# Altium footprint library Connector_JST.PcbLib: 558 footprints (part 32 of 35)
Each footprint in its own frame and in the unit in brackets; x right, y up, seen from the top. Pads: shape width x height; smd on the part's side, far side on the other; paste and mask are expansions set on the pad; w line width, h text height; cw(c..) or ccw(c..) is an arc to the next point about the centre after c.
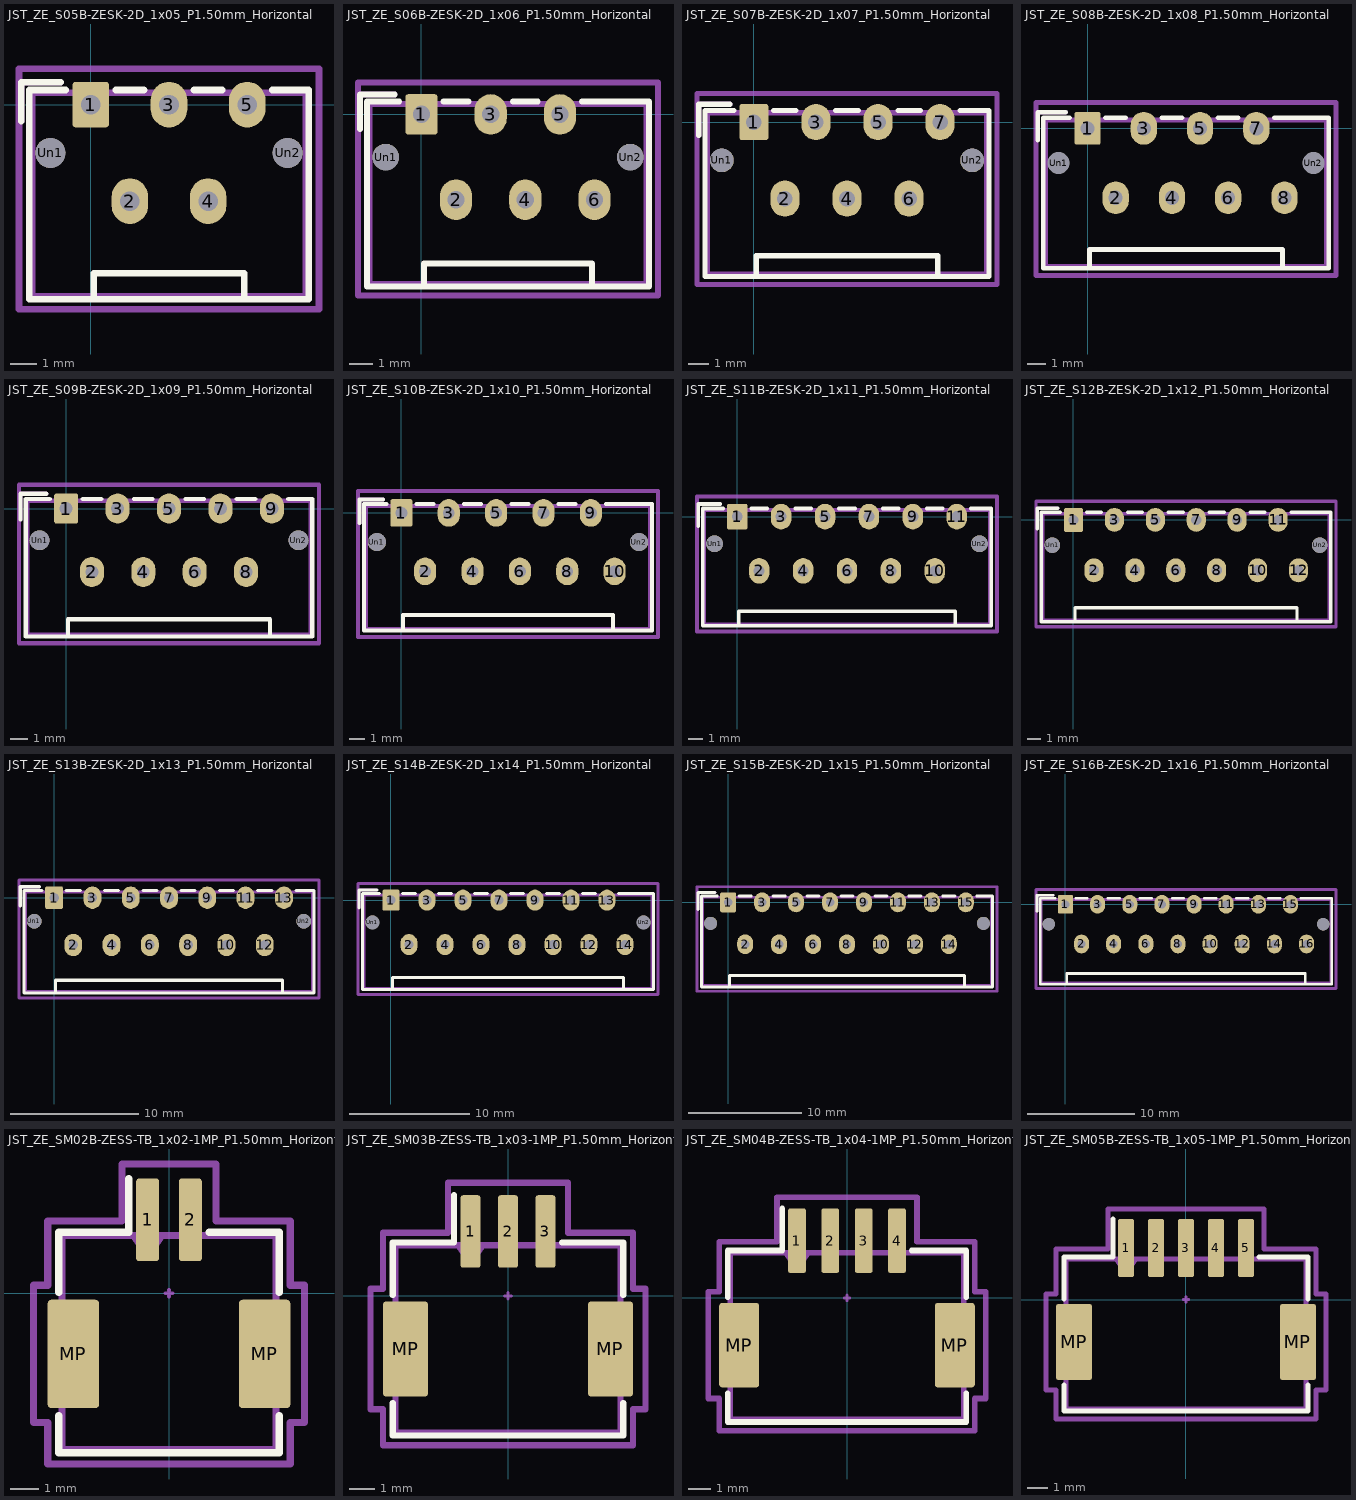
[diagram p31: the footprints below, top view; thin cyan lines are the x and y axes]

## JST_ZE_S05B-ZESK-2D_1x05_P1.50mm_Horizontal [mm] "JST_ZE_S05B-ZESK-2D_1x05_P1.50mm_Horizontal"
pads (7):
  rrect18% 1.4x1.75 hole 0.75: 1(0,0)
  rrect100% 1.4x1.75 hole 0.75: 2(1.5,-3.7) 3(3,0) 4(4.5,-3.7) 5(6,0)
  round 1.15 hole 1.15: Un1(-1.55,-1.85) Un2(7.55,-1.85)
F.SilkS:
  lines w0.254: -2.66,-0.64 -2.66,0.86 -1.16,0.86 ; -0.96,0.56 -2.36,0.56 -2.36,-7.46 8.36,-7.46 8.36,0.56 6.96,0.56 ; 0.11,-7.46 0.11,-6.46 5.89,-6.46 5.89,-7.46 ; 0.96,0.56 2.04,0.56 ; 3.96,0.56 5.04,0.56
Top Component Center:
  lines w0.127: -0.127,0 0.127,0 ; 0,-0.127 0,0.127
Top Assembly:
  lines w0.254: -2.66,-0.64 -2.66,0.86 -1.16,0.86 ; -2.25,-7.35 8.25,-7.35 8.25,0.45 -2.25,0.45 -2.25,-7.35
Top Courtyard:
  lines w0.254: -2.75,-7.85 8.75,-7.85 8.75,1.38 -2.75,1.38 -2.75,-7.85
Top Designator:
  text ".Designator" at -0.255,-2.376 h1.52

## JST_ZE_S06B-ZESK-2D_1x06_P1.50mm_Horizontal [mm] "JST_ZE_S06B-ZESK-2D_1x06_P1.50mm_Horizontal"
pads (8):
  rrect18% 1.4x1.75 hole 0.75: 1(0,0)
  rrect100% 1.4x1.75 hole 0.75: 2(1.5,-3.7) 3(3,0) 4(4.5,-3.7) 5(6,0) 6(7.5,-3.7)
  round 1.15 hole 1.15: Un1(-1.55,-1.85) Un2(9.05,-1.85)
F.SilkS:
  lines w0.254: -2.66,-0.64 -2.66,0.86 -1.16,0.86 ; -0.96,0.56 -2.36,0.56 -2.36,-7.46 9.86,-7.46 9.86,0.56 6.96,0.56 ; 0.11,-7.46 0.11,-6.46 7.39,-6.46 7.39,-7.46 ; 0.96,0.56 2.04,0.56 ; 3.96,0.56 5.04,0.56
Top Component Center:
  lines w0.127: -0.127,0 0.127,0 ; 0,-0.127 0,0.127
Top Assembly:
  lines w0.254: -2.66,-0.64 -2.66,0.86 -1.16,0.86 ; -2.25,-7.35 9.75,-7.35 9.75,0.45 -2.25,0.45 -2.25,-7.35
Top Courtyard:
  lines w0.254: -2.75,-7.85 10.25,-7.85 10.25,1.38 -2.75,1.38 -2.75,-7.85
Top Designator:
  text ".Designator" at 0.253,-2.376 h1.52

## JST_ZE_S07B-ZESK-2D_1x07_P1.50mm_Horizontal [mm] "JST_ZE_S07B-ZESK-2D_1x07_P1.50mm_Horizontal"
pads (9):
  rrect18% 1.4x1.75 hole 0.75: 1(0,0)
  rrect100% 1.4x1.75 hole 0.75: 2(1.5,-3.7) 3(3,0) 4(4.5,-3.7) 5(6,0) 6(7.5,-3.7) 7(9,0)
  round 1.15 hole 1.15: Un1(-1.55,-1.85) Un2(10.55,-1.85)
F.SilkS:
  lines w0.254: -2.66,-0.64 -2.66,0.86 -1.16,0.86 ; -0.96,0.56 -2.36,0.56 -2.36,-7.46 11.36,-7.46 11.36,0.56 9.96,0.56 ; 0.11,-7.46 0.11,-6.46 8.89,-6.46 8.89,-7.46 ; 0.96,0.56 2.04,0.56 ; 3.96,0.56 5.04,0.56 ; 6.96,0.56 8.04,0.56
Top Component Center:
  lines w0.127: -0.127,0 0.127,0 ; 0,-0.127 0,0.127
Top Assembly:
  lines w0.254: -2.66,-0.64 -2.66,0.86 -1.16,0.86 ; -2.25,-7.35 11.25,-7.35 11.25,0.45 -2.25,0.45 -2.25,-7.35
Top Courtyard:
  lines w0.254: -2.75,-7.85 11.75,-7.85 11.75,1.38 -2.75,1.38 -2.75,-7.85
Top Designator:
  text ".Designator" at 1.015,-2.376 h1.52

## JST_ZE_S08B-ZESK-2D_1x08_P1.50mm_Horizontal [mm] "JST_ZE_S08B-ZESK-2D_1x08_P1.50mm_Horizontal"
pads (10):
  rrect18% 1.4x1.75 hole 0.75: 1(0,0)
  rrect100% 1.4x1.75 hole 0.75: 2(1.5,-3.7) 3(3,0) 4(4.5,-3.7) 5(6,0) 6(7.5,-3.7) 7(9,0) 8(10.5,-3.7)
  round 1.15 hole 1.15: Un1(-1.55,-1.85) Un2(12.05,-1.85)
F.SilkS:
  lines w0.254: -2.66,-0.64 -2.66,0.86 -1.16,0.86 ; -0.96,0.56 -2.36,0.56 -2.36,-7.46 12.86,-7.46 12.86,0.56 9.96,0.56 ; 0.11,-7.46 0.11,-6.46 10.39,-6.46 10.39,-7.46 ; 0.96,0.56 2.04,0.56 ; 3.96,0.56 5.04,0.56 ; 6.96,0.56 8.04,0.56
Top Component Center:
  lines w0.127: -0.127,0 0.127,0 ; 0,-0.127 0,0.127
Top Assembly:
  lines w0.254: -2.66,-0.64 -2.66,0.86 -1.16,0.86 ; -2.25,-7.35 -2.25,0.45 12.75,0.45 12.75,-7.35 -2.25,-7.35
Top Courtyard:
  lines w0.254: -2.75,-7.85 -2.75,1.38 13.25,1.38 13.25,-7.85 -2.75,-7.85
Top Designator:
  text ".Designator" at 2.285,-2.249 h1.52

## JST_ZE_S09B-ZESK-2D_1x09_P1.50mm_Horizontal [mm] "JST_ZE_S09B-ZESK-2D_1x09_P1.50mm_Horizontal"
pads (11):
  rrect18% 1.4x1.75 hole 0.75: 1(0,0)
  rrect100% 1.4x1.75 hole 0.75: 2(1.5,-3.7) 3(3,0) 4(4.5,-3.7) 5(6,0) 6(7.5,-3.7) 7(9,0) 8(10.5,-3.7) 9(12,0)
  round 1.15 hole 1.15: Un1(-1.55,-1.85) Un2(13.55,-1.85)
F.SilkS:
  lines w0.254: -2.66,-0.64 -2.66,0.86 -1.16,0.86 ; -0.96,0.56 -2.36,0.56 -2.36,-7.46 14.36,-7.46 14.36,0.56 12.96,0.56 ; 0.11,-7.46 0.11,-6.46 11.89,-6.46 11.89,-7.46 ; 0.96,0.56 2.04,0.56 ; 3.96,0.56 5.04,0.56 ; 6.96,0.56 8.04,0.56 ; 9.96,0.56 11.04,0.56
Top Component Center:
  lines w0.127: -0.127,0 0.127,0 ; 0,-0.127 0,0.127
Top Assembly:
  lines w0.254: -2.66,-0.64 -2.66,0.86 -1.16,0.86 ; -2.25,-7.35 14.25,-7.35 14.25,0.45 -2.25,0.45 -2.25,-7.35
Top Courtyard:
  lines w0.254: -2.75,-7.85 14.75,-7.85 14.75,1.38 -2.75,1.38 -2.75,-7.85
Top Designator:
  text ".Designator" at 2.539,-2.122 h1.52

## JST_ZE_S10B-ZESK-2D_1x10_P1.50mm_Horizontal [mm] "JST_ZE_S10B-ZESK-2D_1x10_P1.50mm_Horizontal"
pads (12):
  rrect18% 1.4x1.75 hole 0.75: 1(0,0)
  rrect100% 1.4x1.75 hole 0.75: 2(1.5,-3.7) 3(3,0) 4(4.5,-3.7) 5(6,0) 6(7.5,-3.7) 7(9,0) 8(10.5,-3.7) 9(12,0) 10(13.5,-3.7)
  round 1.15 hole 1.15: Un1(-1.55,-1.85) Un2(15.05,-1.85)
F.SilkS:
  lines w0.254: -2.66,-0.64 -2.66,0.86 -1.16,0.86 ; -0.96,0.56 -2.36,0.56 -2.36,-7.46 15.86,-7.46 15.86,0.56 12.96,0.56 ; 0.11,-7.46 0.11,-6.46 13.39,-6.46 13.39,-7.46 ; 0.96,0.56 2.04,0.56 ; 3.96,0.56 5.04,0.56 ; 6.96,0.56 8.04,0.56 ; 9.96,0.56 11.04,0.56
Top Component Center:
  lines w0.127: -0.127,0 0.127,0 ; 0,-0.127 0,0.127
Top Assembly:
  lines w0.254: -2.66,-0.64 -2.66,0.86 -1.16,0.86 ; -2.25,-7.35 -2.25,0.45 15.75,0.45 15.75,-7.35 -2.25,-7.35
Top Courtyard:
  lines w0.254: -2.75,-7.85 -2.75,1.38 16.25,1.38 16.25,-7.85 -2.75,-7.85
Top Designator:
  text ".Designator" at 3.301,-2.122 h1.52

## JST_ZE_S11B-ZESK-2D_1x11_P1.50mm_Horizontal [mm] "JST_ZE_S11B-ZESK-2D_1x11_P1.50mm_Horizontal"
pads (13):
  rrect18% 1.4x1.75 hole 0.75: 1(0,0)
  rrect100% 1.4x1.75 hole 0.75: 2(1.5,-3.7) 3(3,0) 4(4.5,-3.7) 5(6,0) 6(7.5,-3.7) 7(9,0) 8(10.5,-3.7) 9(12,0) 10(13.5,-3.7) 11(15,0)
  round 1.15 hole 1.15: Un1(-1.55,-1.85) Un2(16.55,-1.85)
F.SilkS:
  lines w0.254: -2.66,-0.64 -2.66,0.86 -1.16,0.86 ; -0.96,0.56 -2.36,0.56 -2.36,-7.46 17.36,-7.46 17.36,0.56 15.96,0.56 ; 0.11,-7.46 0.11,-6.46 14.89,-6.46 14.89,-7.46 ; 0.96,0.56 2.04,0.56 ; 3.96,0.56 5.04,0.56 ; 6.96,0.56 8.04,0.56 ; 9.96,0.56 11.04,0.56 ; 12.96,0.56 14.04,0.56
Top Component Center:
  lines w0.127: -0.127,0 0.127,0 ; 0,-0.127 0,0.127
Top Assembly:
  lines w0.254: -2.66,-0.64 -2.66,0.86 -1.16,0.86 ; -2.25,-7.35 -2.25,0.45 17.25,0.45 17.25,-7.35 -2.25,-7.35
Top Courtyard:
  lines w0.254: -2.75,-7.85 -2.75,1.38 17.75,1.38 17.75,-7.85 -2.75,-7.85
Top Designator:
  text ".Designator" at 4.063,-2.249 h1.52

## JST_ZE_S12B-ZESK-2D_1x12_P1.50mm_Horizontal [mm] "JST_ZE_S12B-ZESK-2D_1x12_P1.50mm_Horizontal"
pads (14):
  rrect18% 1.4x1.75 hole 0.75: 1(0,0)
  rrect100% 1.4x1.75 hole 0.75: 2(1.5,-3.7) 3(3,0) 4(4.5,-3.7) 5(6,0) 6(7.5,-3.7) 7(9,0) 8(10.5,-3.7) 9(12,0) 10(13.5,-3.7) 11(15,0) 12(16.5,-3.7)
  round 1.15 hole 1.15: Un1(-1.55,-1.85) Un2(18.05,-1.85)
F.SilkS:
  lines w0.254: -2.66,-0.64 -2.66,0.86 -1.16,0.86 ; -0.96,0.56 -2.36,0.56 -2.36,-7.46 18.86,-7.46 18.86,0.56 15.96,0.56 ; 0.11,-7.46 0.11,-6.46 16.39,-6.46 16.39,-7.46 ; 0.96,0.56 2.04,0.56 ; 3.96,0.56 5.04,0.56 ; 6.96,0.56 8.04,0.56 ; 9.96,0.56 11.04,0.56 ; 12.96,0.56 14.04,0.56
Top Component Center:
  lines w0.127: -0.127,0 0.127,0 ; 0,-0.127 0,0.127
Top Assembly:
  lines w0.254: -2.66,-0.64 -2.66,0.86 -1.16,0.86 ; -2.25,-7.35 -2.25,0.45 18.75,0.45 18.75,-7.35 -2.25,-7.35
Top Courtyard:
  lines w0.254: -2.75,-7.85 -2.75,1.38 19.25,1.38 19.25,-7.85 -2.75,-7.85
Top Designator:
  text ".Designator" at 4.571,-2.122 h1.52

## JST_ZE_S13B-ZESK-2D_1x13_P1.50mm_Horizontal [mm] "JST_ZE_S13B-ZESK-2D_1x13_P1.50mm_Horizontal"
pads (15):
  rrect18% 1.4x1.75 hole 0.75: 1(0,0)
  rrect100% 1.4x1.75 hole 0.75: 2(1.5,-3.7) 3(3,0) 4(4.5,-3.7) 5(6,0) 6(7.5,-3.7) 7(9,0) 8(10.5,-3.7) 9(12,0) 10(13.5,-3.7) 11(15,0) 12(16.5,-3.7) 13(18,0)
  round 1.15 hole 1.15: Un1(-1.55,-1.85) Un2(19.55,-1.85)
F.SilkS:
  lines w0.254: -2.66,-0.64 -2.66,0.86 -1.16,0.86 ; -0.96,0.56 -2.36,0.56 -2.36,-7.46 20.36,-7.46 20.36,0.56 18.96,0.56 ; 0.11,-7.46 0.11,-6.46 17.89,-6.46 17.89,-7.46 ; 0.96,0.56 2.04,0.56 ; 3.96,0.56 5.04,0.56 ; 6.96,0.56 8.04,0.56 ; 9.96,0.56 11.04,0.56 ; 12.96,0.56 14.04,0.56 ; 15.96,0.56 17.04,0.56
Top Component Center:
  lines w0.127: -0.127,0 0.127,0 ; 0,-0.127 0,0.127
Top Assembly:
  lines w0.254: -2.66,-0.64 -2.66,0.86 -1.16,0.86 ; -2.25,-7.35 20.25,-7.35 20.25,0.45 -2.25,0.45 -2.25,-7.35
Top Courtyard:
  lines w0.254: -2.75,-7.85 20.75,-7.85 20.75,1.38 -2.75,1.38 -2.75,-7.85
Top Designator:
  text ".Designator" at 5.587,-2.122 h1.52

## JST_ZE_S14B-ZESK-2D_1x14_P1.50mm_Horizontal [mm] "JST_ZE_S14B-ZESK-2D_1x14_P1.50mm_Horizontal"
pads (16):
  rrect18% 1.4x1.75 hole 0.75: 1(0,0)
  rrect100% 1.4x1.75 hole 0.75: 2(1.5,-3.7) 3(3,0) 4(4.5,-3.7) 5(6,0) 6(7.5,-3.7) 7(9,0) 8(10.5,-3.7) 9(12,0) 10(13.5,-3.7) 11(15,0) 12(16.5,-3.7) 13(18,0) 14(19.5,-3.7)
  round 1.15 hole 1.15: Un1(-1.55,-1.85) Un2(21.05,-1.85)
F.SilkS:
  lines w0.254: -2.66,-0.64 -2.66,0.86 -1.16,0.86 ; -0.96,0.56 -2.36,0.56 -2.36,-7.46 21.86,-7.46 21.86,0.56 18.96,0.56 ; 0.11,-7.46 0.11,-6.46 19.39,-6.46 19.39,-7.46 ; 0.96,0.56 2.04,0.56 ; 3.96,0.56 5.04,0.56 ; 6.96,0.56 8.04,0.56 ; 9.96,0.56 11.04,0.56 ; 12.96,0.56 14.04,0.56 ; 15.96,0.56 17.04,0.56
Top Component Center:
  lines w0.127: -0.127,0 0.127,0 ; 0,-0.127 0,0.127
Top Assembly:
  lines w0.254: -2.66,-0.64 -2.66,0.86 -1.16,0.86 ; -2.25,-7.35 -2.25,0.45 21.75,0.45 21.75,-7.35 -2.25,-7.35
Top Courtyard:
  lines w0.254: -2.75,-7.85 -2.75,1.38 22.25,1.38 22.25,-7.85 -2.75,-7.85
Top Designator:
  text ".Designator" at 5.841,-2.249 h1.52

## JST_ZE_S15B-ZESK-2D_1x15_P1.50mm_Horizontal [mm] "JST_ZE_S15B-ZESK-2D_1x15_P1.50mm_Horizontal"
pads (17):
  rrect18% 1.4x1.75 hole 0.75: 1(0,0)
  rrect100% 1.4x1.75 hole 0.75: 2(1.5,-3.7) 3(3,0) 4(4.5,-3.7) 5(6,0) 6(7.5,-3.7) 7(9,0) 8(10.5,-3.7) 9(12,0) 10(13.5,-3.7) 11(15,0) 12(16.5,-3.7) 13(18,0) 14(19.5,-3.7) 15(21,0)
  round 1.15 hole 1.15: Un1(-1.55,-1.85) Un2(22.55,-1.85)
F.SilkS:
  lines w0.254: -2.66,-0.64 -2.66,0.86 -1.16,0.86 ; -0.96,0.56 -2.36,0.56 -2.36,-7.46 23.36,-7.46 23.36,0.56 21.96,0.56 ; 0.11,-7.46 0.11,-6.46 20.89,-6.46 20.89,-7.46 ; 0.96,0.56 2.04,0.56 ; 3.96,0.56 5.04,0.56 ; 6.96,0.56 8.04,0.56 ; 9.96,0.56 11.04,0.56 ; 12.96,0.56 14.04,0.56 ; 15.96,0.56 17.04,0.56 ; 18.96,0.56 20.04,0.56
Top Component Center:
  lines w0.127: -0.127,0 0.127,0 ; 0,-0.127 0,0.127
Top Assembly:
  lines w0.254: -2.66,-0.64 -2.66,0.86 -1.16,0.86 ; -2.25,-7.35 23.25,-7.35 23.25,0.45 -2.25,0.45 -2.25,-7.35
Top Courtyard:
  lines w0.254: -2.75,-7.85 23.75,-7.85 23.75,1.38 -2.75,1.38 -2.75,-7.85
Top Designator:
  text ".Designator" at 6.984,-2.122 h1.52

## JST_ZE_S16B-ZESK-2D_1x16_P1.50mm_Horizontal [mm] "JST_ZE_S16B-ZESK-2D_1x16_P1.50mm_Horizontal"
pads (18):
  rrect18% 1.4x1.75 hole 0.75: 1(0,0)
  rrect100% 1.4x1.75 hole 0.75: 2(1.5,-3.7) 3(3,0) 4(4.5,-3.7) 5(6,0) 6(7.5,-3.7) 7(9,0) 8(10.5,-3.7) 9(12,0) 10(13.5,-3.7) 11(15,0) 12(16.5,-3.7) 13(18,0) 14(19.5,-3.7) 15(21,0) 16(22.5,-3.7)
  round 1.15 hole 1.15: Un1(-1.55,-1.85) Un2(24.05,-1.85)
F.SilkS:
  lines w0.254: -2.66,-0.64 -2.66,0.86 -1.16,0.86 ; -0.96,0.56 -2.36,0.56 -2.36,-7.46 24.86,-7.46 24.86,0.56 21.96,0.56 ; 0.11,-7.46 0.11,-6.46 22.39,-6.46 22.39,-7.46 ; 0.96,0.56 2.04,0.56 ; 3.96,0.56 5.04,0.56 ; 6.96,0.56 8.04,0.56 ; 9.96,0.56 11.04,0.56 ; 12.96,0.56 14.04,0.56 ; 15.96,0.56 17.04,0.56 ; 18.96,0.56 20.04,0.56
Top Component Center:
  lines w0.127: -0.127,0 0.127,0 ; 0,-0.127 0,0.127
Top Assembly:
  lines w0.254: -2.66,-0.64 -2.66,0.86 -1.16,0.86 ; -2.25,-7.35 24.75,-7.35 24.75,0.45 -2.25,0.45 -2.25,-7.35
Top Courtyard:
  lines w0.254: -2.75,-7.85 25.25,-7.85 25.25,1.38 -2.75,1.38 -2.75,-7.85
Top Designator:
  text ".Designator" at 8,-2.249 h1.52

## JST_ZE_SM02B-ZESS-TB_1x02-1MP_P1.50mm_Horizontal [mm] "JST_ZE_SM02B-ZESS-TB_1x02-1MP_P1.50mm_Horizontal"
pads (4):
  rrect25% 0.8x2.9 smd: 1(-0.75,2.575) 2(0.75,2.575)
  rrect14% 1.8x3.8 smd: MP(-3.35,-2.125) MP(3.35,-2.125)
F.SilkS:
  lines w0.254: -3.86,-4.285 -3.86,-5.585 3.86,-5.585 3.86,-4.285 ; -3.86,0.035 -3.86,2.135 -1.41,2.135 -1.41,4.025 ; 1.41,2.135 3.86,2.135 3.86,0.035
Top Component Center:
  lines w0.127: -0.127,0 0.127,0 ; 0,-0.127 0,0.127
Top Assembly:
  lines w0.254: -1.25,2.025 -0.75,1.318 -0.25,2.025 ; -3.75,-5.475 3.75,-5.475 3.75,2.025 -3.75,2.025 -3.75,-5.475
Top Courtyard:
  lines w0.254: -4.75,-4.53 -4.25,-4.53 -4.25,-5.98 4.25,-5.98 4.25,-4.53 4.75,-4.53 4.75,0.28 4.25,0.28 4.25,2.53 1.65,2.53 1.65,4.53 -1.65,4.53 -1.65,2.53 -4.25,2.53 -4.25,0.28 -4.75,0.28 -4.75,-4.53
Top Designator:
  text ".Designator" at -3.43,-0.344 h1.52

## JST_ZE_SM03B-ZESS-TB_1x03-1MP_P1.50mm_Horizontal [mm] "JST_ZE_SM03B-ZESS-TB_1x03-1MP_P1.50mm_Horizontal"
pads (5):
  rrect25% 0.8x2.9 smd: 1(-1.5,2.575) 2(0,2.575) 3(1.5,2.575)
  rrect14% 1.8x3.8 smd: MP(-4.1,-2.125) MP(4.1,-2.125)
F.SilkS:
  lines w0.254: -4.61,-4.285 -4.61,-5.585 4.61,-5.585 4.61,-4.285 ; -4.61,0.035 -4.61,2.135 -2.16,2.135 -2.16,4.025 ; 2.16,2.135 4.61,2.135 4.61,0.035
Top Component Center:
  lines w0.127: -0.127,0 0.127,0 ; 0,-0.127 0,0.127
Top Assembly:
  lines w0.254: -2,2.025 -1.5,1.318 -1,2.025 ; -4.5,-5.475 4.5,-5.475 4.5,2.025 -4.5,2.025 -4.5,-5.475
Top Courtyard:
  lines w0.254: -5.5,-4.53 -5,-4.53 -5,-5.98 5,-5.98 5,-4.53 5.5,-4.53 5.5,0.28 5,0.28 5,2.53 2.4,2.53 2.4,4.53 -2.4,4.53 -2.4,2.53 -5,2.53 -5,0.28 -5.5,0.28 -5.5,-4.53
Top Designator:
  text ".Designator" at -3.43,-0.344 h1.52

## JST_ZE_SM04B-ZESS-TB_1x04-1MP_P1.50mm_Horizontal [mm] "JST_ZE_SM04B-ZESS-TB_1x04-1MP_P1.50mm_Horizontal"
pads (6):
  rrect25% 0.8x2.9 smd: 1(-2.25,2.575) 2(-0.75,2.575) 3(0.75,2.575) 4(2.25,2.575)
  rrect14% 1.8x3.8 smd: MP(-4.85,-2.125) MP(4.85,-2.125)
F.SilkS:
  lines w0.254: -5.36,-4.285 -5.36,-5.585 5.36,-5.585 5.36,-4.285 ; -5.36,0.035 -5.36,2.135 -2.91,2.135 -2.91,4.025 ; 2.91,2.135 5.36,2.135 5.36,0.035
Top Component Center:
  lines w0.127: -0.127,0 0.127,0 ; 0,-0.127 0,0.127
Top Assembly:
  lines w0.254: -2.75,2.025 -2.25,1.318 -1.75,2.025 ; -5.25,-5.475 -5.25,2.025 5.25,2.025 5.25,-5.475 -5.25,-5.475
Top Courtyard:
  lines w0.254: -6.25,-4.53 -6.25,0.28 -5.75,0.28 -5.75,2.53 -3.15,2.53 -3.15,4.53 3.15,4.53 3.15,2.53 5.75,2.53 5.75,0.28 6.25,0.28 6.25,-4.53 5.75,-4.53 5.75,-5.98 -5.75,-5.98 -5.75,-4.53 -6.25,-4.53
Top Designator:
  text ".Designator" at -3.43,-0.344 h1.52

## JST_ZE_SM05B-ZESS-TB_1x05-1MP_P1.50mm_Horizontal [mm] "JST_ZE_SM05B-ZESS-TB_1x05-1MP_P1.50mm_Horizontal"
pads (7):
  rrect25% 0.8x2.9 smd: 1(-3,2.575) 2(-1.5,2.575) 3(0,2.575) 4(1.5,2.575) 5(3,2.575)
  rrect14% 1.8x3.8 smd: MP(-5.6,-2.125) MP(5.6,-2.125)
F.SilkS:
  lines w0.254: -6.11,-4.285 -6.11,-5.585 6.11,-5.585 6.11,-4.285 ; -6.11,0.035 -6.11,2.135 -3.66,2.135 -3.66,4.025 ; 3.66,2.135 6.11,2.135 6.11,0.035
Top Component Center:
  lines w0.127: -0.127,0 0.127,0 ; 0,-0.127 0,0.127
Top Assembly:
  lines w0.254: -3.5,2.025 -3,1.318 -2.5,2.025 ; -6,-5.475 6,-5.475 6,2.025 -6,2.025 -6,-5.475
Top Courtyard:
  lines w0.254: -7,-4.53 -6.5,-4.53 -6.5,-5.98 6.5,-5.98 6.5,-4.53 7,-4.53 7,0.28 6.5,0.28 6.5,2.53 3.9,2.53 3.9,4.53 -3.9,4.53 -3.9,2.53 -6.5,2.53 -6.5,0.28 -7,0.28 -7,-4.53
Top Designator:
  text ".Designator" at -3.43,-0.344 h1.52